# Altium integrated library Maxim Power and Battery Management.IntLib: 645 symbols (part 12 of 15)
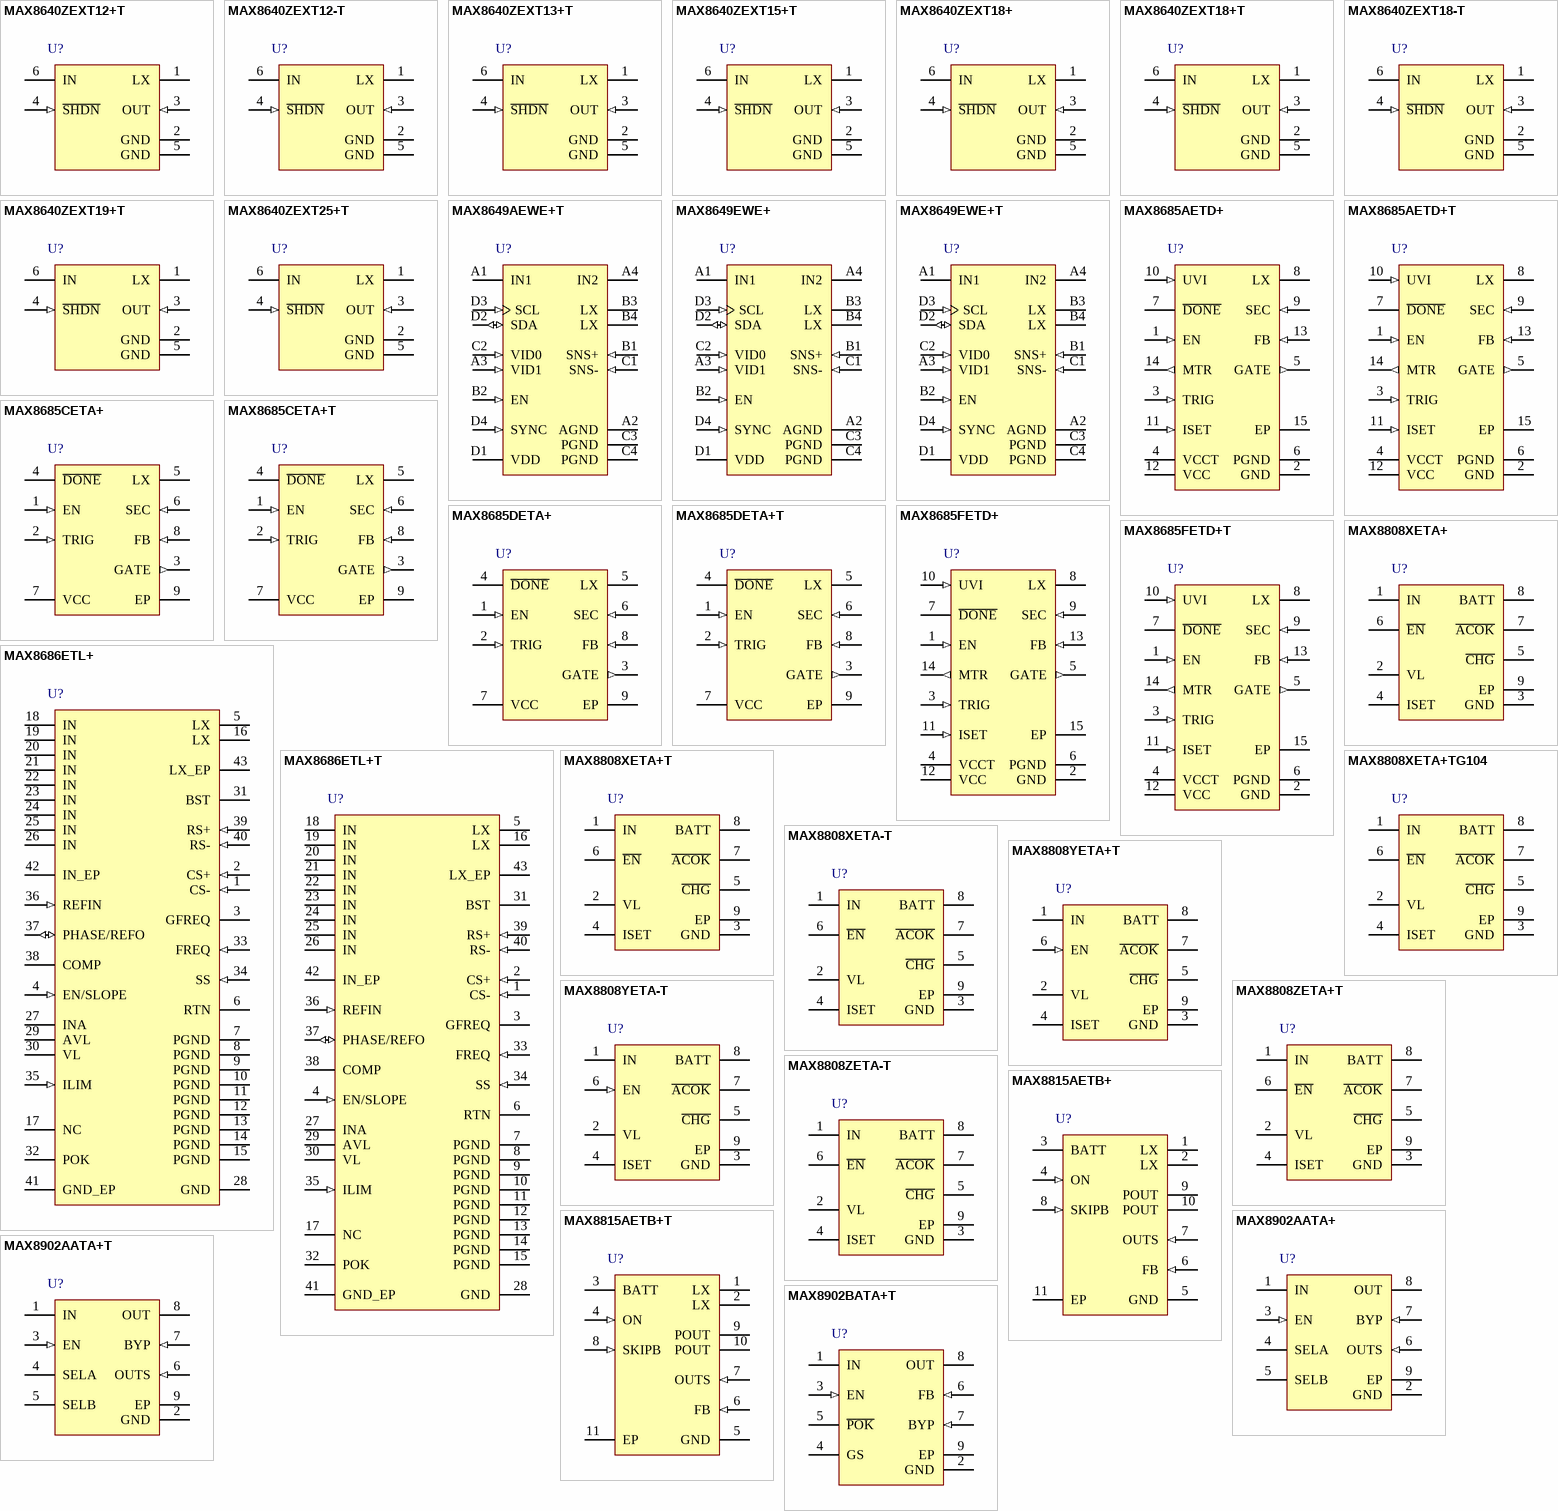
[diagram p30: symbols MAX8640ZEXT12+T to MAX8902BATA+T]

## MAX8649EWE+
designator U?
1.8A Step-Down Regulator with Remote Sense, I2C Address (0xC0/0xC1), 16-Pin WLP, -40°C to +85°C, Pb-Free; DatasheetVersion: Rev 4, Jun-2011; PackageVersion: revF, 2011; PackageReference: W162B2+1; PackageDescription: 16-Ball Wafer-Level Package (WLP) 4x4 Bump, Full Array, 0.5 mm Pitch, Pb-Free; ComponentLink1Description: Manufacturer URL; ComponentLink1URL: http://www.maxim-ic.com; ComponentLink2Description: Datasheet; ComponentLink2URL: http://datasheets.maxim-ic.com/en/ds/MAX8649-MAX8649A.pdf; ComponentLink3Description: Package Specification; ComponentLink3URL: http://pdfserv.maxim-ic.com/package_dwgs/21-0200.PDF
footprint W162B2+1 (BGA, 16-Leads, Body 2.05x2.05mm, Pitch 0.5mm)
pins: A1 IN1 (power), A2 AGND (power), A3 VID1 (in), A4 IN2 (power), B1 SNS+ (in), B2 EN (in), B3 LX, B4 LX, C1 SNS- (in), C2 VID0 (in), C3 PGND (power), C4 PGND (power), D1 VDD (power), D2 SDA (io), D3 SCL (in), D4 SYNC (in)

## MAX8649EWE+T
designator U?
1.8A Step-Down Regulator with Remote Sense, I2C Address (0xC0/0xC1), 16-Pin WLP, -40°C to +85°C, Pb-Free, Tape and Reel; DatasheetVersion: Rev 4, Jun-2011; PackageVersion: revF, 2011; PackageReference: W162B2+1; PackageDescription: 16-Ball Wafer-Level Package (WLP) 4x4 Bump, Full Array, 0.5 mm Pitch, Pb-Free; ComponentLink1Description: Manufacturer URL; ComponentLink1URL: http://www.maxim-ic.com; ComponentLink2Description: Datasheet; ComponentLink2URL: http://datasheets.maxim-ic.com/en/ds/MAX8649-MAX8649A.pdf; ComponentLink3Description: Package Specification; ComponentLink3URL: http://pdfserv.maxim-ic.com/package_dwgs/21-0200.PDF
footprint W162B2+1 (BGA, 16-Leads, Body 2.05x2.05mm, Pitch 0.5mm)
pins: A1 IN1 (power), A2 AGND (power), A3 VID1 (in), A4 IN2 (power), B1 SNS+ (in), B2 EN (in), B3 LX, B4 LX, C1 SNS- (in), C2 VID0 (in), C3 PGND (power), C4 PGND (power), D1 VDD (power), D2 SDA (io), D3 SCL (in), D4 SYNC (in)

## MAX8685AETD+
designator U?
Xenon Photoflash Charger with IGBT Driver and Voltage Monitor, 14-Pin TDFN-EP, -40°C to +85°C, Pb-Free; DatasheetVersion: Rev 4, Feb-2009; PackageVersion: revJ, 2009; PackageReference: T1433+2; PackageDescription: 14-Pin Plastic Very Very Thin Dual Flatpack No Leads (TDFN-EP), 3 x 3 x 0.8 mm Body, 0.4 mm Pitch, Pb-Free; ComponentLink1Description: Manufacturer URL; ComponentLink1URL: http://www.maxim-ic.com; ComponentLink2Description: Datasheet; ComponentLink2URL: http://datasheets.maxim-ic.com/en/ds/MAX8685-MAX8685F.pdf; ComponentLink3Description: Package Specification; ComponentLink3URL: http://pdfserv.maxim-ic.com/package_dwgs/21-0137.PDF
footprint T1433+2_V (SON, 14-Leads, Body 3x3mm, Pitch 0.4mm, Thermal Pad 2.35x1.78mm, Maxim Recommended)
pins: 1 EN (in), 2 GND (power), 3 TRIG (in), 4 VCCT (power), 5 GATE (out), 6 PGND (power), 7 ~{DONE} (oc), 8 LX, 9 SEC (in), 10 UVI (in), 11 ISET (in), 12 VCC (power), 13 FB (in), 14 MTR (out), 15 EP (power)

## MAX8685AETD+T
designator U?
Xenon Photoflash Charger with IGBT Driver and Voltage Monitor, 14-Pin TDFN-EP, -40°C to +85°C, Pb-Free, Tape and Reel; DatasheetVersion: Rev 4, Feb-2009; PackageVersion: revJ, 2009; PackageReference: T1433+2; PackageDescription: 14-Pin Plastic Very Very Thin Dual Flatpack No Leads (TDFN-EP), 3 x 3 x 0.8 mm Body, 0.4 mm Pitch, Pb-Free; ComponentLink1Description: Manufacturer URL; ComponentLink1URL: http://www.maxim-ic.com; ComponentLink2Description: Datasheet; ComponentLink2URL: http://datasheets.maxim-ic.com/en/ds/MAX8685-MAX8685F.pdf; ComponentLink3Description: Package Specification; ComponentLink3URL: http://pdfserv.maxim-ic.com/package_dwgs/21-0137.PDF
footprint T1433+2_V (SON, 14-Leads, Body 3x3mm, Pitch 0.4mm, Thermal Pad 2.35x1.78mm, Maxim Recommended)
pins: 1 EN (in), 2 GND (power), 3 TRIG (in), 4 VCCT (power), 5 GATE (out), 6 PGND (power), 7 ~{DONE} (oc), 8 LX, 9 SEC (in), 10 UVI (in), 11 ISET (in), 12 VCC (power), 13 FB (in), 14 MTR (out), 15 EP (power)

## MAX8685CETA+
designator U?
Xenon Photoflash Charger with IGBT Driver and Voltage Monitor, 8-Pin TDFN, -40°C to +85°C, Pb-Free; DatasheetVersion: Rev 4, Feb-2009; PackageVersion: revC, 2011; PackageReference: T823+1; PackageDescription: 8-Pin Plastic Very Very Thin Dual Flatpack No Leads, Exposed Pad, 2 x 3 x 0.8 mm Body, TDFN-EP, Pb-Free; Code_JEDEC: MO-229-WCED-2; ComponentLink1Description: Manufacturer URL; ComponentLink1URL: http://www.maxim-ic.com; ComponentLink2Description: Datasheet; ComponentLink2URL: http://datasheets.maxim-ic.com/en/ds/MAX8685-MAX8685F.pdf; ComponentLink3Description: Package Specification; ComponentLink3URL: http://pdfserv.maxim-ic.com/package_dwgs/21-0174.PDF
footprint T823+1_V (SON, 8-Leads, Body 2x3mm, Pitch 0.5mm, Thermal Pad 1.88x1.73 mm)
pins: 1 EN (in), 2 TRIG (in), 3 GATE (out), 4 ~{DONE} (oc), 5 LX, 6 SEC (in), 7 VCC (power), 8 FB (in), 9 EP (power)

## MAX8685CETA+T
designator U?
Xenon Photoflash Charger with IGBT Driver and Voltage Monitor, 8-Pin TDFN, -40°C to +85°C, Pb-Free, Tape and Reel; DatasheetVersion: Rev 4, Feb-2009; PackageVersion: revC, 2011; PackageReference: T823+1; PackageDescription: 8-Pin Plastic Very Very Thin Dual Flatpack No Leads, Exposed Pad, 2 x 3 x 0.8 mm Body, TDFN-EP, Pb-Free; Code_JEDEC: MO-229-WCED-2; ComponentLink1Description: Manufacturer URL; ComponentLink1URL: http://www.maxim-ic.com; ComponentLink2Description: Datasheet; ComponentLink2URL: http://datasheets.maxim-ic.com/en/ds/MAX8685-MAX8685F.pdf; ComponentLink3Description: Package Specification; ComponentLink3URL: http://pdfserv.maxim-ic.com/package_dwgs/21-0174.PDF
footprint T823+1_V (SON, 8-Leads, Body 2x3mm, Pitch 0.5mm, Thermal Pad 1.88x1.73 mm)
pins: 1 EN (in), 2 TRIG (in), 3 GATE (out), 4 ~{DONE} (oc), 5 LX, 6 SEC (in), 7 VCC (power), 8 FB (in), 9 EP (power)

## MAX8685DETA+
designator U?
Xenon Photoflash Charger with IGBT Driver and Voltage Monitor, 8-Pin TDFN, -40°C to +85°C, Pb-Free; DatasheetVersion: Rev 4, Feb-2009; PackageVersion: revC, 2011; PackageReference: T823+1; PackageDescription: 8-Pin Plastic Very Very Thin Dual Flatpack No Leads, Exposed Pad, 2 x 3 x 0.8 mm Body, TDFN-EP, Pb-Free; Code_JEDEC: MO-229-WCED-2; ComponentLink1Description: Manufacturer URL; ComponentLink1URL: http://www.maxim-ic.com; ComponentLink2Description: Datasheet; ComponentLink2URL: http://datasheets.maxim-ic.com/en/ds/MAX8685-MAX8685F.pdf; ComponentLink3Description: Package Specification; ComponentLink3URL: http://pdfserv.maxim-ic.com/package_dwgs/21-0174.PDF
footprint T823+1_V (SON, 8-Leads, Body 2x3mm, Pitch 0.5mm, Thermal Pad 1.88x1.73 mm)
pins: 1 EN (in), 2 TRIG (in), 3 GATE (out), 4 ~{DONE} (oc), 5 LX, 6 SEC (in), 7 VCC (power), 8 FB (in), 9 EP (power)

## MAX8685DETA+T
designator U?
Xenon Photoflash Charger with IGBT Driver and Voltage Monitor, 8-Pin TDFN, -40°C to +85°C, Pb-Free, Tape and Reel; DatasheetVersion: Rev 4, Feb-2009; PackageVersion: revC, 2011; PackageReference: T823+1; PackageDescription: 8-Pin Plastic Very Very Thin Dual Flatpack No Leads, Exposed Pad, 2 x 3 x 0.8 mm Body, TDFN-EP, Pb-Free; Code_JEDEC: MO-229-WCED-2; ComponentLink1Description: Manufacturer URL; ComponentLink1URL: http://www.maxim-ic.com; ComponentLink2Description: Datasheet; ComponentLink2URL: http://datasheets.maxim-ic.com/en/ds/MAX8685-MAX8685F.pdf; ComponentLink3Description: Package Specification; ComponentLink3URL: http://pdfserv.maxim-ic.com/package_dwgs/21-0174.PDF
footprint T823+1_V (SON, 8-Leads, Body 2x3mm, Pitch 0.5mm, Thermal Pad 1.88x1.73 mm)
pins: 1 EN (in), 2 TRIG (in), 3 GATE (out), 4 ~{DONE} (oc), 5 LX, 6 SEC (in), 7 VCC (power), 8 FB (in), 9 EP (power)

## MAX8685FETD+
designator U?
Xenon Photoflash Charger with IGBT Driver and Voltage Monitor, 14-Pin TDFN-EP, -40°C to +85°C, Pb-Free; DatasheetVersion: Rev 4, Feb-2009; PackageVersion: revJ, 2009; PackageReference: T1433+2; PackageDescription: 14-Pin Plastic Very Very Thin Dual Flatpack No Leads (TDFN-EP), 3 x 3 x 0.8 mm Body, 0.4 mm Pitch, Pb-Free; ComponentLink1Description: Manufacturer URL; ComponentLink1URL: http://www.maxim-ic.com; ComponentLink2Description: Datasheet; ComponentLink2URL: http://datasheets.maxim-ic.com/en/ds/MAX8685-MAX8685F.pdf; ComponentLink3Description: Package Specification; ComponentLink3URL: http://pdfserv.maxim-ic.com/package_dwgs/21-0137.PDF
footprint T1433+2_V (SON, 14-Leads, Body 3x3mm, Pitch 0.4mm, Thermal Pad 2.35x1.78mm, Maxim Recommended)
pins: 1 EN (in), 2 GND (power), 3 TRIG (in), 4 VCCT (power), 5 GATE (out), 6 PGND (power), 7 ~{DONE} (oc), 8 LX, 9 SEC (in), 10 UVI (in), 11 ISET (in), 12 VCC (power), 13 FB (in), 14 MTR (out), 15 EP (power)

## MAX8685FETD+T
designator U?
Xenon Photoflash Charger with IGBT Driver and Voltage Monitor, 14-Pin TDFN-EP, -40°C to +85°C, Pb-Free, Tape and Reel; DatasheetVersion: Rev 4, Feb-2009; PackageVersion: revJ, 2009; PackageReference: T1433+2; PackageDescription: 14-Pin Plastic Very Very Thin Dual Flatpack No Leads (TDFN-EP), 3 x 3 x 0.8 mm Body, 0.4 mm Pitch, Pb-Free; ComponentLink1Description: Manufacturer URL; ComponentLink1URL: http://www.maxim-ic.com; ComponentLink2Description: Datasheet; ComponentLink2URL: http://datasheets.maxim-ic.com/en/ds/MAX8685-MAX8685F.pdf; ComponentLink3Description: Package Specification; ComponentLink3URL: http://pdfserv.maxim-ic.com/package_dwgs/21-0137.PDF
footprint T1433+2_V (SON, 14-Leads, Body 3x3mm, Pitch 0.4mm, Thermal Pad 2.35x1.78mm, Maxim Recommended)
pins: 1 EN (in), 2 GND (power), 3 TRIG (in), 4 VCCT (power), 5 GATE (out), 6 PGND (power), 7 ~{DONE} (oc), 8 LX, 9 SEC (in), 10 UVI (in), 11 ISET (in), 12 VCC (power), 13 FB (in), 14 MTR (out), 15 EP (power)

## MAX8686ETL+
designator U?
Single/Multiphase, Step-Down, DC-DC Converter with up to 25A Per Phase, 40-Pin TQFN, Pb-Free; DatasheetVersion: Rev 1, Oct-2010; PackageVersion: revE, 2011; PackageReference: T4066M+1; PackageDescription: 40-Pin Thin Quad Flat No-Lead, 6 x 6 x 0.75 mm Body, 0.5 mm Pitch, TQFN, Three Exposed Pads, Pb-Free; ComponentLink1Description: Manufacturer URL; ComponentLink1URL: http://www.maxim-ic.com; ComponentLink2Description: Datasheet; ComponentLink2URL: http://datasheets.maxim-ic.com/en/ds/MAX8686.pdf; ComponentLink3Description: Package Specification; ComponentLink3URL: http://pdfserv.maxim-ic.com/package_dwgs/21-0177.PDF
footprint T4066M+1_N (QFN, 40-Leads, Body 6x6mm, Pitch 0.5mm, Three Thermal Pads, IPC Medium Density)
footprint T4066M+1_L (QFN, 40-Leads, Body 6x6mm, Pitch 0.5mm, Three Thermal Pads, IPC High Density)
footprint T4066M+1_M (QFN, 40-Leads, Body 6x6mm, Pitch 0.5mm, Three Thermal Pads, IPC Low Density)
pins: 1 CS- (in), 2 CS+ (in), 3 GFREQ, 4 EN/SLOPE (in), 5 LX, 6 RTN (power), 7 PGND (power), 8 PGND (power), 9 PGND (power), 10 PGND (power), 11 PGND (power), 12 PGND (power), 13 PGND (power), 14 PGND (power), 15 PGND (power), 16 LX, 17 NC, 18 IN (power), 19 IN (power), 20 IN (power), 21 IN (power), 22 IN (power), 23 IN (power), 24 IN (power), 25 IN (power), 26 IN (power), 27 INA (power), 28 GND (power), 29 AVL (power), 30 VL (power), 31 BST, 32 POK (oc), 33 FREQ (in), 34 SS (in), 35 ILIM (in), 36 REFIN (in), 37 PHASE/REFO (io), 38 COMP, 39 RS+ (in), 40 RS- (in), 41 GND_EP (power), 42 IN_EP, 43 LX_EP

## MAX8686ETL+T
designator U?
Single/Multiphase, Step-Down, DC-DC Converter with up to 25A Per Phase, 40-Pin TQFN, Pb-Free, Tape and Reel; DatasheetVersion: Rev 1, Oct-2010; PackageVersion: revE, 2011; PackageReference: T4066M+1; PackageDescription: 40-Pin Thin Quad Flat No-Lead, 6 x 6 x 0.75 mm Body, 0.5 mm Pitch, TQFN, Three Exposed Pads, Pb-Free; ComponentLink1Description: Manufacturer URL; ComponentLink1URL: http://www.maxim-ic.com; ComponentLink2Description: Datasheet; ComponentLink2URL: http://datasheets.maxim-ic.com/en/ds/MAX8686.pdf; ComponentLink3Description: Package Specification; ComponentLink3URL: http://pdfserv.maxim-ic.com/package_dwgs/21-0177.PDF
footprint T4066M+1_N (QFN, 40-Leads, Body 6x6mm, Pitch 0.5mm, Three Thermal Pads, IPC Medium Density)
footprint T4066M+1_L (QFN, 40-Leads, Body 6x6mm, Pitch 0.5mm, Three Thermal Pads, IPC High Density)
footprint T4066M+1_M (QFN, 40-Leads, Body 6x6mm, Pitch 0.5mm, Three Thermal Pads, IPC Low Density)
pins: 1 CS- (in), 2 CS+ (in), 3 GFREQ, 4 EN/SLOPE (in), 5 LX, 6 RTN (power), 7 PGND (power), 8 PGND (power), 9 PGND (power), 10 PGND (power), 11 PGND (power), 12 PGND (power), 13 PGND (power), 14 PGND (power), 15 PGND (power), 16 LX, 17 NC, 18 IN (power), 19 IN (power), 20 IN (power), 21 IN (power), 22 IN (power), 23 IN (power), 24 IN (power), 25 IN (power), 26 IN (power), 27 INA (power), 28 GND (power), 29 AVL (power), 30 VL (power), 31 BST, 32 POK (oc), 33 FREQ (in), 34 SS (in), 35 ILIM (in), 36 REFIN (in), 37 PHASE/REFO (io), 38 COMP, 39 RS+ (in), 40 RS- (in), 41 GND_EP (power), 42 IN_EP, 43 LX_EP

## MAX8808XETA+
designator U?
1A Linear Li+ Battery Charger with Integrated Pass FET and Thermal Regulation, 8-Pin TDFN, -40°C to +85°C, Pb-Free; DatasheetVersion: Rev 0, Apr-2005; PackageVersion: revF, 2011; PackageReference: T822+1; PackageDescription: 8-Pin Plastic Very Very Thin Dual Flatpack, No Leads, 2 x 2 x 0.75 mm Body, 0.5 mm Pitch, TDFN, Pb-Free; Code_JEDEC: MO-229*; ComponentLink1Description: Manufacturer URL; ComponentLink1URL: http://www.maxim-ic.com; ComponentLink2Description: Datasheet; ComponentLink2URL: http://datasheets.maxim-ic.com/en/ds/MAX8808X-MAX8808Z.pdf; ComponentLink3Description: Package Specification; ComponentLink3URL: http://pdfserv.maxim-ic.com/package_dwgs/21-0168.PDF
footprint T822+1_N (SON, 8-Leads, Body 2x2mm, Pitch 0.5mm, Thermal Pad 1.3x0.7mm, IPC Medium Density)
footprint T822+1_L (SON, 8-Leads, Body 2x2mm, Pitch 0.5mm, Thermal Pad 1.3x0.7mm, IPC High Density)
footprint T822+1_M (SON, 8-Leads, Body 2x2mm, Pitch 0.5mm, Thermal Pad 1.3x0.7mm, IPC Low Density)
pins: 1 IN (power), 2 VL (power), 3 GND (power), 4 ISET, 5 ~{CHG} (oc), 6 ~{EN}, 7 ~{ACOK} (oc), 8 BATT (power), 9 EP (power)

## MAX8808XETA+T
designator U?
1A Linear Li+ Battery Charger with Integrated Pass FET and Thermal Regulation, 8-Pin TDFN, -40°C to +85°C, Pb-Free, Tape and Reel; DatasheetVersion: Rev 0, Apr-2005; PackageVersion: revF, 2011; PackageReference: T822+1; PackageDescription: 8-Pin Plastic Very Very Thin Dual Flatpack, No Leads, 2 x 2 x 0.75 mm Body, 0.5 mm Pitch, TDFN, Pb-Free; Code_JEDEC: MO-229*; ComponentLink1Description: Manufacturer URL; ComponentLink1URL: http://www.maxim-ic.com; ComponentLink2Description: Datasheet; ComponentLink2URL: http://datasheets.maxim-ic.com/en/ds/MAX8808X-MAX8808Z.pdf; ComponentLink3Description: Package Specification; ComponentLink3URL: http://pdfserv.maxim-ic.com/package_dwgs/21-0168.PDF
footprint T822+1_N (SON, 8-Leads, Body 2x2mm, Pitch 0.5mm, Thermal Pad 1.3x0.7mm, IPC Medium Density)
footprint T822+1_L (SON, 8-Leads, Body 2x2mm, Pitch 0.5mm, Thermal Pad 1.3x0.7mm, IPC High Density)
footprint T822+1_M (SON, 8-Leads, Body 2x2mm, Pitch 0.5mm, Thermal Pad 1.3x0.7mm, IPC Low Density)
pins: 1 IN (power), 2 VL (power), 3 GND (power), 4 ISET, 5 ~{CHG} (oc), 6 ~{EN}, 7 ~{ACOK} (oc), 8 BATT (power), 9 EP (power)

## MAX8808XETA+TG104
designator U?
1A Linear Li+ Battery Charger with Integrated Pass FET and Thermal Regulation, 8-Pin TDFN, -40°C to +85°C, Pb-Free, Tape and Reel; DatasheetVersion: Rev 0, Apr-2005; PackageVersion: revF, 2011; PackageReference: T822+1; PackageDescription: 8-Pin Plastic Very Very Thin Dual Flatpack, No Leads, 2 x 2 x 0.75 mm Body, 0.5 mm Pitch, TDFN, Pb-Free; Code_JEDEC: MO-229*; ComponentLink1Description: Manufacturer URL; ComponentLink1URL: http://www.maxim-ic.com; ComponentLink2Description: Datasheet; ComponentLink2URL: http://datasheets.maxim-ic.com/en/ds/MAX8808X-MAX8808Z.pdf; ComponentLink3Description: Package Specification; ComponentLink3URL: http://pdfserv.maxim-ic.com/package_dwgs/21-0168.PDF
footprint T822+1_N (SON, 8-Leads, Body 2x2mm, Pitch 0.5mm, Thermal Pad 1.3x0.7mm, IPC Medium Density)
footprint T822+1_L (SON, 8-Leads, Body 2x2mm, Pitch 0.5mm, Thermal Pad 1.3x0.7mm, IPC High Density)
footprint T822+1_M (SON, 8-Leads, Body 2x2mm, Pitch 0.5mm, Thermal Pad 1.3x0.7mm, IPC Low Density)
pins: 1 IN (power), 2 VL (power), 3 GND (power), 4 ISET, 5 ~{CHG} (oc), 6 ~{EN}, 7 ~{ACOK} (oc), 8 BATT (power), 9 EP (power)

## MAX8808XETA-T
designator U?
1A Linear Li+ Battery Charger with Integrated Pass FET and Thermal Regulation, 8-Pin TDFN, -40°C to +85°C, Tape and Reel; DatasheetVersion: Rev 0, Apr-2005; PackageVersion: revF, 2011; PackageReference: T822-1; PackageDescription: 8-Pin Plastic Very Very Thin Dual Flatpack, No Leads, 2 x 2 x 0.75 mm Body, 0.5 mm Pitch, TDFN; Code_JEDEC: MO-229*; ComponentLink1Description: Manufacturer URL; ComponentLink1URL: http://www.maxim-ic.com; ComponentLink2Description: Datasheet; ComponentLink2URL: http://datasheets.maxim-ic.com/en/ds/MAX8808X-MAX8808Z.pdf; ComponentLink3Description: Package Specification; ComponentLink3URL: http://pdfserv.maxim-ic.com/package_dwgs/21-0168.PDF
footprint T822-1_N (SON, 8-Leads, Body 2x2mm, Pitch 0.5mm, Thermal Pad 1.3x0.7mm, IPC Medium Density)
footprint T822-1_L (SON, 8-Leads, Body 2x2mm, Pitch 0.5mm, Thermal Pad 1.3x0.7mm, IPC High Density)
footprint T822-1_M (SON, 8-Leads, Body 2x2mm, Pitch 0.5mm, Thermal Pad 1.3x0.7mm, IPC Low Density)
pins: 1 IN (power), 2 VL (power), 3 GND (power), 4 ISET, 5 ~{CHG} (oc), 6 ~{EN}, 7 ~{ACOK} (oc), 8 BATT (power), 9 EP (power)

## MAX8808YETA+T
designator U?
1A Linear Li+ Battery Charger with Integrated Pass FET and Thermal Regulation, 8-Pin TDFN, -40°C to +85°C, Pb-Free, Tape and Reel; DatasheetVersion: Rev 0, Apr-2005; PackageVersion: revF, 2011; PackageReference: T822+1; PackageDescription: 8-Pin Plastic Very Very Thin Dual Flatpack, No Leads, 2 x 2 x 0.75 mm Body, 0.5 mm Pitch, TDFN, Pb-Free; Code_JEDEC: MO-229*; ComponentLink1Description: Manufacturer URL; ComponentLink1URL: http://www.maxim-ic.com; ComponentLink2Description: Datasheet; ComponentLink2URL: http://datasheets.maxim-ic.com/en/ds/MAX8808X-MAX8808Z.pdf; ComponentLink3Description: Package Specification; ComponentLink3URL: http://pdfserv.maxim-ic.com/package_dwgs/21-0168.PDF
footprint T822+1_N (SON, 8-Leads, Body 2x2mm, Pitch 0.5mm, Thermal Pad 1.3x0.7mm, IPC Medium Density)
footprint T822+1_L (SON, 8-Leads, Body 2x2mm, Pitch 0.5mm, Thermal Pad 1.3x0.7mm, IPC High Density)
footprint T822+1_M (SON, 8-Leads, Body 2x2mm, Pitch 0.5mm, Thermal Pad 1.3x0.7mm, IPC Low Density)
pins: 1 IN (power), 2 VL (power), 3 GND (power), 4 ISET, 5 ~{CHG} (oc), 6 EN (in), 7 ~{ACOK} (oc), 8 BATT (power), 9 EP (power)

## MAX8808YETA-T
designator U?
1A Linear Li+ Battery Charger with Integrated Pass FET and Thermal Regulation, 8-Pin TDFN, -40°C to +85°C, Tape and Reel; DatasheetVersion: Rev 0, Apr-2005; PackageVersion: revF, 2011; PackageReference: T822-1; PackageDescription: 8-Pin Plastic Very Very Thin Dual Flatpack, No Leads, 2 x 2 x 0.75 mm Body, 0.5 mm Pitch, TDFN; Code_JEDEC: MO-229*; ComponentLink1Description: Manufacturer URL; ComponentLink1URL: http://www.maxim-ic.com; ComponentLink2Description: Datasheet; ComponentLink2URL: http://datasheets.maxim-ic.com/en/ds/MAX8808X-MAX8808Z.pdf; ComponentLink3Description: Package Specification; ComponentLink3URL: http://pdfserv.maxim-ic.com/package_dwgs/21-0168.PDF
footprint T822-1_N (SON, 8-Leads, Body 2x2mm, Pitch 0.5mm, Thermal Pad 1.3x0.7mm, IPC Medium Density)
footprint T822-1_L (SON, 8-Leads, Body 2x2mm, Pitch 0.5mm, Thermal Pad 1.3x0.7mm, IPC High Density)
footprint T822-1_M (SON, 8-Leads, Body 2x2mm, Pitch 0.5mm, Thermal Pad 1.3x0.7mm, IPC Low Density)
pins: 1 IN (power), 2 VL (power), 3 GND (power), 4 ISET, 5 ~{CHG} (oc), 6 EN (in), 7 ~{ACOK} (oc), 8 BATT (power), 9 EP (power)

## MAX8808ZETA+T
designator U?
1A Linear Li+ Battery Charger with Integrated Pass FET and Thermal Regulation, 8-Pin TDFN, -40°C to +85°C, Pb-Free, Tape and Reel; DatasheetVersion: Rev 0, Apr-2005; PackageVersion: revF, 2011; PackageReference: T822+1; PackageDescription: 8-Pin Plastic Very Very Thin Dual Flatpack, No Leads, 2 x 2 x 0.75 mm Body, 0.5 mm Pitch, TDFN, Pb-Free; Code_JEDEC: MO-229*; ComponentLink1Description: Manufacturer URL; ComponentLink1URL: http://www.maxim-ic.com; ComponentLink2Description: Datasheet; ComponentLink2URL: http://datasheets.maxim-ic.com/en/ds/MAX8808X-MAX8808Z.pdf; ComponentLink3Description: Package Specification; ComponentLink3URL: http://pdfserv.maxim-ic.com/package_dwgs/21-0168.PDF
footprint T822+1_N (SON, 8-Leads, Body 2x2mm, Pitch 0.5mm, Thermal Pad 1.3x0.7mm, IPC Medium Density)
footprint T822+1_L (SON, 8-Leads, Body 2x2mm, Pitch 0.5mm, Thermal Pad 1.3x0.7mm, IPC High Density)
footprint T822+1_M (SON, 8-Leads, Body 2x2mm, Pitch 0.5mm, Thermal Pad 1.3x0.7mm, IPC Low Density)
pins: 1 IN (power), 2 VL (power), 3 GND (power), 4 ISET, 5 ~{CHG} (oc), 6 ~{EN}, 7 ~{ACOK} (oc), 8 BATT (power), 9 EP (power)

## MAX8808ZETA-T
designator U?
1A Linear Li+ Battery Charger with Integrated Pass FET and Thermal Regulation, 8-Pin TDFN, -40°C to +85°C, Tape and Reel; DatasheetVersion: Rev 0, Apr-2005; PackageVersion: revF, 2011; PackageReference: T822-1; PackageDescription: 8-Pin Plastic Very Very Thin Dual Flatpack, No Leads, 2 x 2 x 0.75 mm Body, 0.5 mm Pitch, TDFN; Code_JEDEC: MO-229*; ComponentLink1Description: Manufacturer URL; ComponentLink1URL: http://www.maxim-ic.com; ComponentLink2Description: Datasheet; ComponentLink2URL: http://datasheets.maxim-ic.com/en/ds/MAX8808X-MAX8808Z.pdf; ComponentLink3Description: Package Specification; ComponentLink3URL: http://pdfserv.maxim-ic.com/package_dwgs/21-0168.PDF
footprint T822-1_N (SON, 8-Leads, Body 2x2mm, Pitch 0.5mm, Thermal Pad 1.3x0.7mm, IPC Medium Density)
footprint T822-1_L (SON, 8-Leads, Body 2x2mm, Pitch 0.5mm, Thermal Pad 1.3x0.7mm, IPC High Density)
footprint T822-1_M (SON, 8-Leads, Body 2x2mm, Pitch 0.5mm, Thermal Pad 1.3x0.7mm, IPC Low Density)
pins: 1 IN (power), 2 VL (power), 3 GND (power), 4 ISET, 5 ~{CHG} (oc), 6 ~{EN}, 7 ~{ACOK} (oc), 8 BATT (power), 9 EP (power)

## MAX8815AETB+
designator U?
1A, 97% Efficiency, 30uA Quiescent Current, Step-Up Converter with True Shutdown(TM), 10-Pin TDFN-EP, -40°C to +85°C, Pb-Free; DatasheetVersion: Rev 1, Aug-2008; PackageVersion: revJ, 2009; PackageReference: T1033+2; PackageDescription: 10-Pin Plastic Very Very Thin Dual Flatpack No Leads, Exposed Pad, 3 x 3 x 0.8 mm Body, TDFN-EP, Pb-Free; Code_JEDEC: MO-229-WEED-3; ComponentLink1Description: Manufacturer URL; ComponentLink1URL: http://www.maxim-ic.com; ComponentLink2Description: Datasheet; ComponentLink2URL: http://datasheets.maxim-ic.com/en/ds/MAX8815A.pdf; ComponentLink3Description: Package Specification; ComponentLink3URL: http://pdfserv.maxim-ic.com/package_dwgs/21-0137.PDF
footprint T1033+2_V (SON, 10-Leads, Body 3x3mm, Pitch 0.5mm, Thermal Pad 2.35x1.58mm, Maxim Recommended)
footprint  T1033+2_N (SON, 10-Leads, Body 3x3mm, Pitch 0.5mm, Thermal Pad 2.3x1.5mm, IPC Medium Density)
footprint  T1033+2_L (SON, 10-Leads, Body 3x3mm, Pitch 0.5mm, Thermal Pad 2.3x1.5mm, IPC High Density)
footprint  T1033+2_M (SON, 10-Leads, Body 3x3mm, Pitch 0.5mm, Thermal Pad 2.3x1.5mm, IPC Low Density)
pins: 1 LX, 2 LX, 3 BATT (power), 4 ON (in), 5 GND (power), 6 FB (in), 7 OUTS (in), 8 SKIPB (in), 9 POUT (power), 10 POUT (power), 11 EP (power)

## MAX8815AETB+T
designator U?
1A, 97% Efficiency, 30uA Quiescent Current, Step-Up Converter with True Shutdown(TM), 10-Pin TDFN-EP, -40°C to +85°C, Pb-Free, Tape and Reel; DatasheetVersion: Rev 1, Aug-2008; PackageVersion: revJ, 2009; PackageReference: T1033+2; PackageDescription: 10-Pin Plastic Very Very Thin Dual Flatpack No Leads, Exposed Pad, 3 x 3 x 0.8 mm Body, TDFN-EP, Pb-Free; Code_JEDEC: MO-229-WEED-3; ComponentLink1Description: Manufacturer URL; ComponentLink1URL: http://www.maxim-ic.com; ComponentLink2Description: Datasheet; ComponentLink2URL: http://datasheets.maxim-ic.com/en/ds/MAX8815A.pdf; ComponentLink3Description: Package Specification; ComponentLink3URL: http://pdfserv.maxim-ic.com/package_dwgs/21-0137.PDF
footprint T1033+2_V (SON, 10-Leads, Body 3x3mm, Pitch 0.5mm, Thermal Pad 2.35x1.58mm, Maxim Recommended)
footprint  T1033+2_N (SON, 10-Leads, Body 3x3mm, Pitch 0.5mm, Thermal Pad 2.3x1.5mm, IPC Medium Density)
footprint  T1033+2_L (SON, 10-Leads, Body 3x3mm, Pitch 0.5mm, Thermal Pad 2.3x1.5mm, IPC High Density)
footprint  T1033+2_M (SON, 10-Leads, Body 3x3mm, Pitch 0.5mm, Thermal Pad 2.3x1.5mm, IPC Low Density)
pins: 1 LX, 2 LX, 3 BATT (power), 4 ON (in), 5 GND (power), 6 FB (in), 7 OUTS (in), 8 SKIPB (in), 9 POUT (power), 10 POUT (power), 11 EP (power)

## MAX8902AATA+
designator U?
Low-Noise, Low-Dropout, High-PSRR, 500mA Linear Regulator, 8-Pin TDFN-EP, -40°C to +125°C, Pb-Free; DatasheetVersion: Rev 4, Apr-2011; PackageVersion: revF, 2011; PackageReference: T822+1; PackageDescription: 8-Pin Plastic Very Very Thin Dual Flatpack, No Leads, 2 x 2 x 0.75 mm Body, 0.5 mm Pitch, TDFN, Pb-Free; Code_JEDEC: MO-229*; ComponentLink1Description: Manufacturer URL; ComponentLink1URL: http://www.maxim-ic.com; ComponentLink2Description: Datasheet; ComponentLink2URL: http://datasheets.maxim-ic.com/en/ds/MAX8902-MAX8902B.pdf; ComponentLink3Description: Package Specification; ComponentLink3URL: http://pdfserv.maxim-ic.com/package_dwgs/21-0168.PDF
footprint T822+1_N (SON, 8-Leads, Body 2x2mm, Pitch 0.5mm, Thermal Pad 1.3x0.7mm, IPC Medium Density)
footprint T822+1_L (SON, 8-Leads, Body 2x2mm, Pitch 0.5mm, Thermal Pad 1.3x0.7mm, IPC High Density)
footprint T822+1_M (SON, 8-Leads, Body 2x2mm, Pitch 0.5mm, Thermal Pad 1.3x0.7mm, IPC Low Density)
pins: 1 IN (power), 2 GND (power), 3 EN (in), 4 SELA, 5 SELB, 6 OUTS (in), 7 BYP (in), 8 OUT (power), 9 EP (power)

## MAX8902AATA+T
designator U?
Low-Noise, Low-Dropout, High-PSRR, 500mA Linear Regulator, 8-Pin TDFN-EP, -40°C to +125°C, Pb-Free, Tape and Reel; DatasheetVersion: Rev 4, Apr-2011; PackageVersion: revF, 2011; PackageReference: T822+1; PackageDescription: 8-Pin Plastic Very Very Thin Dual Flatpack, No Leads, 2 x 2 x 0.75 mm Body, 0.5 mm Pitch, TDFN, Pb-Free; Code_JEDEC: MO-229*; ComponentLink1Description: Manufacturer URL; ComponentLink1URL: http://www.maxim-ic.com; ComponentLink2Description: Datasheet; ComponentLink2URL: http://datasheets.maxim-ic.com/en/ds/MAX8902-MAX8902B.pdf; ComponentLink3Description: Package Specification; ComponentLink3URL: http://pdfserv.maxim-ic.com/package_dwgs/21-0168.PDF
footprint T822+1_N (SON, 8-Leads, Body 2x2mm, Pitch 0.5mm, Thermal Pad 1.3x0.7mm, IPC Medium Density)
footprint T822+1_L (SON, 8-Leads, Body 2x2mm, Pitch 0.5mm, Thermal Pad 1.3x0.7mm, IPC High Density)
footprint T822+1_M (SON, 8-Leads, Body 2x2mm, Pitch 0.5mm, Thermal Pad 1.3x0.7mm, IPC Low Density)
pins: 1 IN (power), 2 GND (power), 3 EN (in), 4 SELA, 5 SELB, 6 OUTS (in), 7 BYP (in), 8 OUT (power), 9 EP (power)

## MAX8902BATA+T
designator U?
Low-Noise, Low-Dropout, High-PSRR, 500mA Linear Regulator, 8-Pin TDFN-EP, -40°C to +125°C, Pb-Free, Tape and Reel; DatasheetVersion: Rev 4, Apr-2011; PackageVersion: revF, 2011; PackageReference: T822+1; PackageDescription: 8-Pin Plastic Very Very Thin Dual Flatpack, No Leads, 2 x 2 x 0.75 mm Body, 0.5 mm Pitch, TDFN, Pb-Free; Code_JEDEC: MO-229*; ComponentLink1Description: Manufacturer URL; ComponentLink1URL: http://www.maxim-ic.com; ComponentLink2Description: Datasheet; ComponentLink2URL: http://datasheets.maxim-ic.com/en/ds/MAX8902-MAX8902B.pdf; ComponentLink3Description: Package Specification; ComponentLink3URL: http://pdfserv.maxim-ic.com/package_dwgs/21-0168.PDF
footprint T822+1_N (SON, 8-Leads, Body 2x2mm, Pitch 0.5mm, Thermal Pad 1.3x0.7mm, IPC Medium Density)
footprint T822+1_L (SON, 8-Leads, Body 2x2mm, Pitch 0.5mm, Thermal Pad 1.3x0.7mm, IPC High Density)
footprint T822+1_M (SON, 8-Leads, Body 2x2mm, Pitch 0.5mm, Thermal Pad 1.3x0.7mm, IPC Low Density)
pins: 1 IN (power), 2 GND (power), 3 EN (in), 4 GS (power), 5 ~{POK} (oc), 6 FB (in), 7 BYP (in), 8 OUT (power), 9 EP (power)

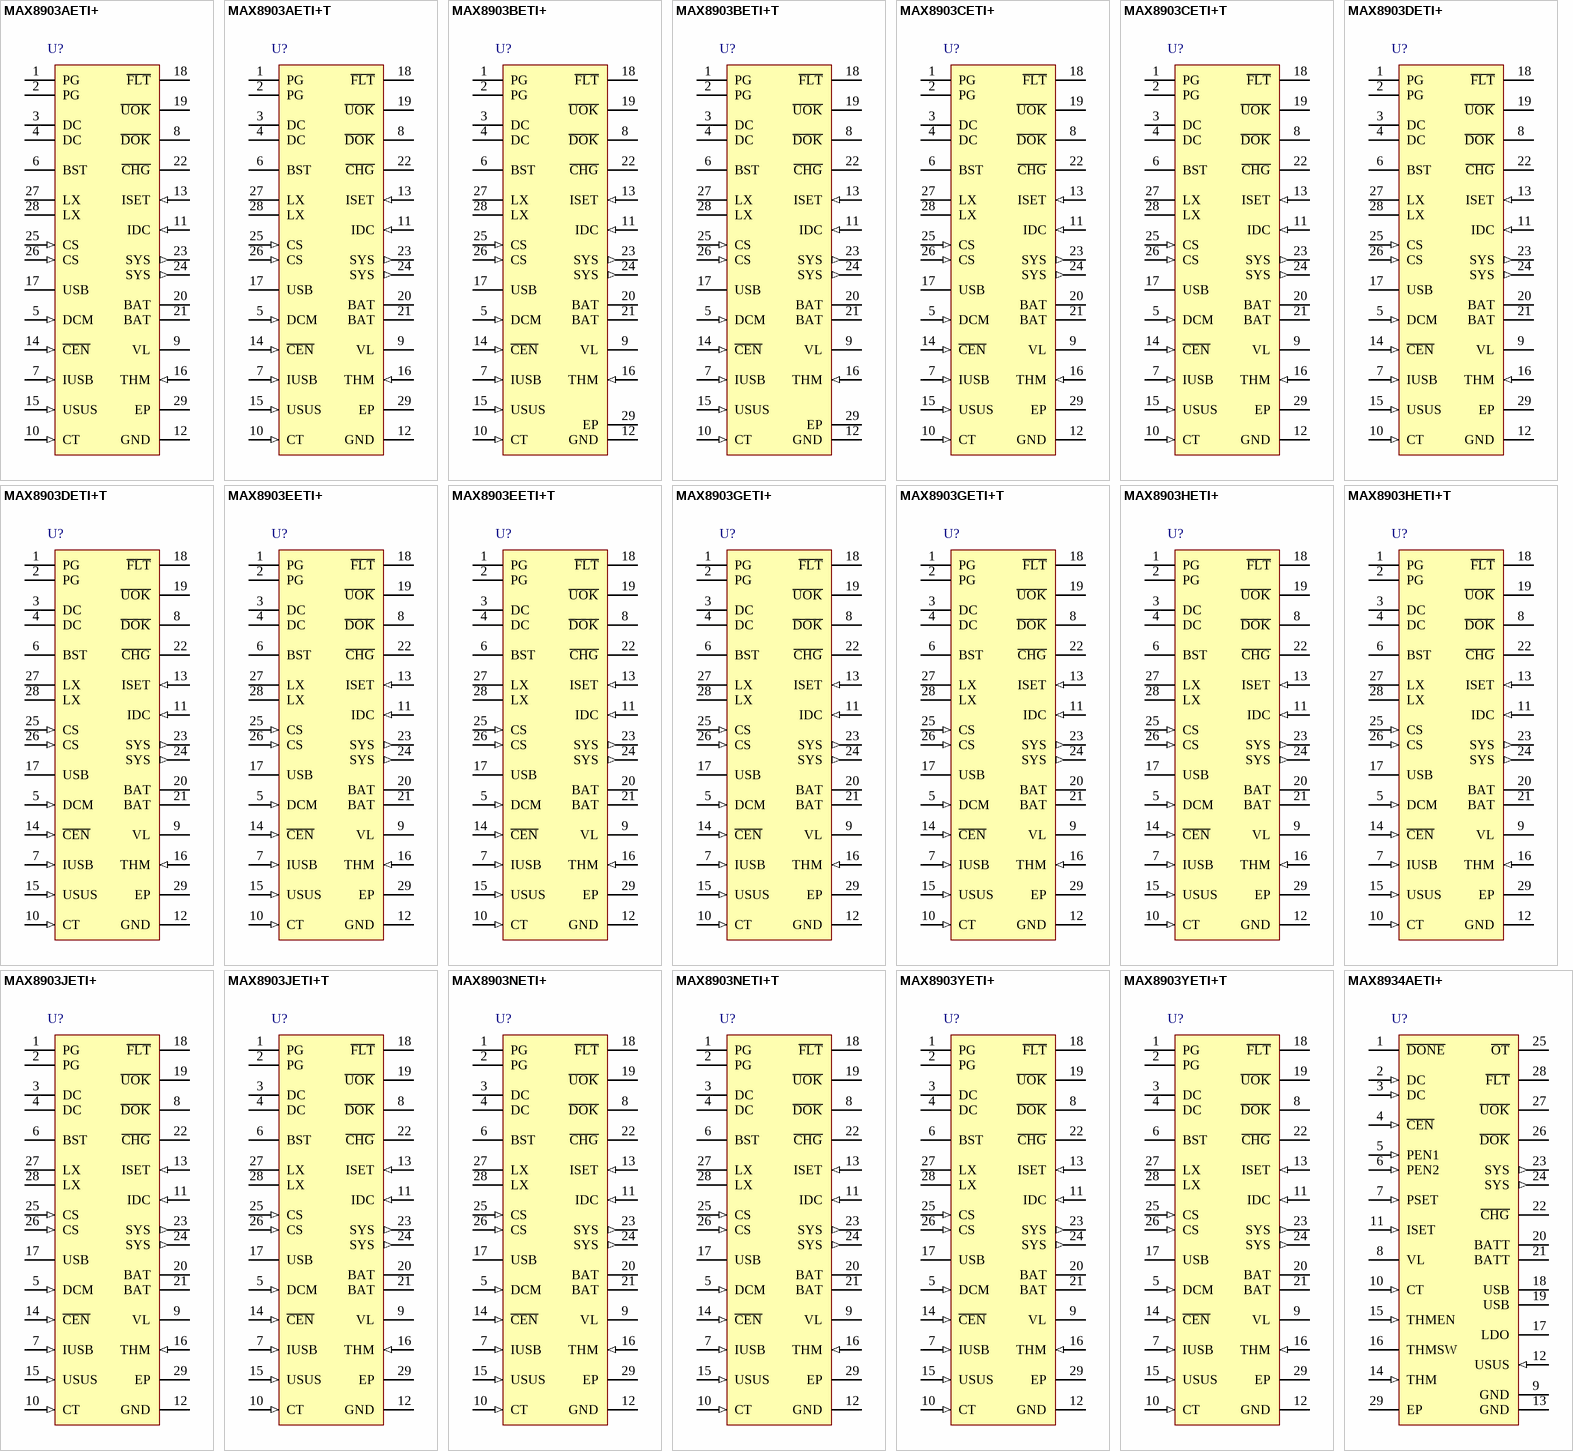
[diagram p15: symbols MAX8903AETI+ to MAX8934AETI+]

## MAX8903AETI+
designator U?
2A 1-Cell Li+ DC-DC Charger for USB and Adapter Power, 28-Pin TQFN, -40°C to +85°C, Pb-Free; DatasheetVersion: Rev 5, Sep-2011; PackageVersion: revK, 2011; PackageReference: T2844+1; PackageDescription: 28-Pin Thin Quad Flatpack, No Leads, 4 x 4 x 0.75mm Body, 0.4 mm Pitch, TQFN, Pb-Free; ComponentLink1Description: Manufacturer URL; ComponentLink1URL: http://www.maxim-ic.com; ComponentLink2Description: Datasheet; ComponentLink2URL: http://datasheets.maxim-ic.com/en/ds/MAX8903A-MAX8903Y.pdf; ComponentLink3Description: Package Specification; ComponentLink3URL: http://pdfserv.maxim-ic.com/package_dwgs/21-0139.PDF
footprint T2844+1_N (QFN, 28-Leads, Body 4x4mm, Pitch 0.4mm, Thermal Pad 2.4x2.4mm, IPC Medium Density)
footprint T2844+1_L (QFN, 28-Leads, Body 4x4mm, Pitch 0.4mm, Thermal Pad 2.4x2.4mm, IPC High Density)
footprint T2844+1_M (QFN, 28-Leads, Body 4x4mm, Pitch 0.4mm, Thermal Pad 2.4x2.4mm, IPC Low Density)
pins: 1 PG (power), 2 PG (power), 3 DC (power), 4 DC (power), 5 DCM (in), 6 BST, 7 IUSB (in), 8 ~{DOK} (oc), 9 VL (power), 10 CT (in), 11 IDC (in), 12 GND (power), 13 ISET (in), 14 ~{CEN} (in), 15 USUS (in), 16 THM (in), 17 USB (power), 18 ~{FLT} (oc), 19 ~{UOK} (oc), 20 BAT (power), 21 BAT (power), 22 ~{CHG} (oc), 23 SYS (out), 24 SYS (out), 25 CS (in), 26 CS (in), 27 LX, 28 LX, 29 EP (power)

## MAX8903AETI+T
designator U?
2A 1-Cell Li+ DC-DC Charger for USB and Adapter Power, 28-Pin TQFN, -40°C to +85°C, Pb-Free, Tape and Reel; DatasheetVersion: Rev 5, Sep-2011; PackageVersion: revK, 2011; PackageReference: T2844+1; PackageDescription: 28-Pin Thin Quad Flatpack, No Leads, 4 x 4 x 0.75mm Body, 0.4 mm Pitch, TQFN, Pb-Free; ComponentLink1Description: Manufacturer URL; ComponentLink1URL: http://www.maxim-ic.com; ComponentLink2Description: Datasheet; ComponentLink2URL: http://datasheets.maxim-ic.com/en/ds/MAX8903A-MAX8903Y.pdf; ComponentLink3Description: Package Specification; ComponentLink3URL: http://pdfserv.maxim-ic.com/package_dwgs/21-0139.PDF
footprint T2844+1_N (QFN, 28-Leads, Body 4x4mm, Pitch 0.4mm, Thermal Pad 2.4x2.4mm, IPC Medium Density)
footprint T2844+1_L (QFN, 28-Leads, Body 4x4mm, Pitch 0.4mm, Thermal Pad 2.4x2.4mm, IPC High Density)
footprint T2844+1_M (QFN, 28-Leads, Body 4x4mm, Pitch 0.4mm, Thermal Pad 2.4x2.4mm, IPC Low Density)
pins: 1 PG (power), 2 PG (power), 3 DC (power), 4 DC (power), 5 DCM (in), 6 BST, 7 IUSB (in), 8 ~{DOK} (oc), 9 VL (power), 10 CT (in), 11 IDC (in), 12 GND (power), 13 ISET (in), 14 ~{CEN} (in), 15 USUS (in), 16 THM (in), 17 USB (power), 18 ~{FLT} (oc), 19 ~{UOK} (oc), 20 BAT (power), 21 BAT (power), 22 ~{CHG} (oc), 23 SYS (out), 24 SYS (out), 25 CS (in), 26 CS (in), 27 LX, 28 LX, 29 EP (power)

## MAX8903BETI+
designator U?
2A 1-Cell Li+ DC-DC Charger for USB and Adapter Power, 28-Pin TQFN, -40°C to +85°C, Pb-Free; DatasheetVersion: Rev 5, Sep-2011; PackageVersion: revK, 2011; PackageReference: T2844+1; PackageDescription: 28-Pin Thin Quad Flatpack, No Leads, 4 x 4 x 0.75mm Body, 0.4 mm Pitch, TQFN, Pb-Free; ComponentLink1Description: Manufacturer URL; ComponentLink1URL: http://www.maxim-ic.com; ComponentLink2Description: Datasheet; ComponentLink2URL: http://datasheets.maxim-ic.com/en/ds/MAX8903A-MAX8903Y.pdf; ComponentLink3Description: Package Specification; ComponentLink3URL: http://pdfserv.maxim-ic.com/package_dwgs/21-0139.PDF
footprint T2844+1_N (QFN, 28-Leads, Body 4x4mm, Pitch 0.4mm, Thermal Pad 2.4x2.4mm, IPC Medium Density)
footprint T2844+1_L (QFN, 28-Leads, Body 4x4mm, Pitch 0.4mm, Thermal Pad 2.4x2.4mm, IPC High Density)
footprint T2844+1_M (QFN, 28-Leads, Body 4x4mm, Pitch 0.4mm, Thermal Pad 2.4x2.4mm, IPC Low Density)
pins: 1 PG (power), 2 PG (power), 3 DC (power), 4 DC (power), 5 DCM (in), 6 BST, 7 IUSB (in), 8 ~{DOK} (oc), 9 VL (power), 10 CT (in), 11 IDC (in), 12 GND (power), 13 ISET (in), 14 ~{CEN} (in), 15 USUS (in), 16 THM (in), 17 USB (power), 18 ~{FLT} (oc), 19 ~{UOK} (oc), 20 BAT (power), 21 BAT (power), 22 ~{CHG} (oc), 23 SYS (out), 24 SYS (out), 25 CS (in), 26 CS (in), 27 LX, 28 LX, 29 EP (power)

## MAX8903BETI+T
designator U?
2A 1-Cell Li+ DC-DC Charger for USB and Adapter Power, 28-Pin TQFN, -40°C to +85°C, Pb-Free, Tape and Reel; DatasheetVersion: Rev 5, Sep-2011; PackageVersion: revK, 2011; PackageReference: T2844+1; PackageDescription: 28-Pin Thin Quad Flatpack, No Leads, 4 x 4 x 0.75mm Body, 0.4 mm Pitch, TQFN, Pb-Free; ComponentLink1Description: Manufacturer URL; ComponentLink1URL: http://www.maxim-ic.com; ComponentLink2Description: Datasheet; ComponentLink2URL: http://datasheets.maxim-ic.com/en/ds/MAX8903A-MAX8903Y.pdf; ComponentLink3Description: Package Specification; ComponentLink3URL: http://pdfserv.maxim-ic.com/package_dwgs/21-0139.PDF
footprint T2844+1_N (QFN, 28-Leads, Body 4x4mm, Pitch 0.4mm, Thermal Pad 2.4x2.4mm, IPC Medium Density)
footprint T2844+1_L (QFN, 28-Leads, Body 4x4mm, Pitch 0.4mm, Thermal Pad 2.4x2.4mm, IPC High Density)
footprint T2844+1_M (QFN, 28-Leads, Body 4x4mm, Pitch 0.4mm, Thermal Pad 2.4x2.4mm, IPC Low Density)
pins: 1 PG (power), 2 PG (power), 3 DC (power), 4 DC (power), 5 DCM (in), 6 BST, 7 IUSB (in), 8 ~{DOK} (oc), 9 VL (power), 10 CT (in), 11 IDC (in), 12 GND (power), 13 ISET (in), 14 ~{CEN} (in), 15 USUS (in), 16 THM (in), 17 USB (power), 18 ~{FLT} (oc), 19 ~{UOK} (oc), 20 BAT (power), 21 BAT (power), 22 ~{CHG} (oc), 23 SYS (out), 24 SYS (out), 25 CS (in), 26 CS (in), 27 LX, 28 LX, 29 EP (power)

## MAX8903CETI+
designator U?
2A 1-Cell Li+ DC-DC Charger for USB and Adapter Power, 28-Pin TQFN, -40°C to +85°C, Pb-Free; DatasheetVersion: Rev 5, Sep-2011; PackageVersion: revK, 2011; PackageReference: T2844+1; PackageDescription: 28-Pin Thin Quad Flatpack, No Leads, 4 x 4 x 0.75mm Body, 0.4 mm Pitch, TQFN, Pb-Free; ComponentLink1Description: Manufacturer URL; ComponentLink1URL: http://www.maxim-ic.com; ComponentLink2Description: Datasheet; ComponentLink2URL: http://datasheets.maxim-ic.com/en/ds/MAX8903A-MAX8903Y.pdf; ComponentLink3Description: Package Specification; ComponentLink3URL: http://pdfserv.maxim-ic.com/package_dwgs/21-0139.PDF
footprint T2844+1_N (QFN, 28-Leads, Body 4x4mm, Pitch 0.4mm, Thermal Pad 2.4x2.4mm, IPC Medium Density)
footprint T2844+1_L (QFN, 28-Leads, Body 4x4mm, Pitch 0.4mm, Thermal Pad 2.4x2.4mm, IPC High Density)
footprint T2844+1_M (QFN, 28-Leads, Body 4x4mm, Pitch 0.4mm, Thermal Pad 2.4x2.4mm, IPC Low Density)
pins: 1 PG (power), 2 PG (power), 3 DC (power), 4 DC (power), 5 DCM (in), 6 BST, 7 IUSB (in), 8 ~{DOK} (oc), 9 VL (power), 10 CT (in), 11 IDC (in), 12 GND (power), 13 ISET (in), 14 ~{CEN} (in), 15 USUS (in), 16 THM (in), 17 USB (power), 18 ~{FLT} (oc), 19 ~{UOK} (oc), 20 BAT (power), 21 BAT (power), 22 ~{CHG} (oc), 23 SYS (out), 24 SYS (out), 25 CS (in), 26 CS (in), 27 LX, 28 LX, 29 EP (power)

## MAX8903CETI+T
designator U?
2A 1-Cell Li+ DC-DC Charger for USB and Adapter Power, 28-Pin TQFN, -40°C to +85°C, Pb-Free, Tape and Reel; DatasheetVersion: Rev 5, Sep-2011; PackageVersion: revK, 2011; PackageReference: T2844+1; PackageDescription: 28-Pin Thin Quad Flatpack, No Leads, 4 x 4 x 0.75mm Body, 0.4 mm Pitch, TQFN, Pb-Free; ComponentLink1Description: Manufacturer URL; ComponentLink1URL: http://www.maxim-ic.com; ComponentLink2Description: Datasheet; ComponentLink2URL: http://datasheets.maxim-ic.com/en/ds/MAX8903A-MAX8903Y.pdf; ComponentLink3Description: Package Specification; ComponentLink3URL: http://pdfserv.maxim-ic.com/package_dwgs/21-0139.PDF
footprint T2844+1_N (QFN, 28-Leads, Body 4x4mm, Pitch 0.4mm, Thermal Pad 2.4x2.4mm, IPC Medium Density)
footprint T2844+1_L (QFN, 28-Leads, Body 4x4mm, Pitch 0.4mm, Thermal Pad 2.4x2.4mm, IPC High Density)
footprint T2844+1_M (QFN, 28-Leads, Body 4x4mm, Pitch 0.4mm, Thermal Pad 2.4x2.4mm, IPC Low Density)
pins: 1 PG (power), 2 PG (power), 3 DC (power), 4 DC (power), 5 DCM (in), 6 BST, 7 IUSB (in), 8 ~{DOK} (oc), 9 VL (power), 10 CT (in), 11 IDC (in), 12 GND (power), 13 ISET (in), 14 ~{CEN} (in), 15 USUS (in), 16 THM (in), 17 USB (power), 18 ~{FLT} (oc), 19 ~{UOK} (oc), 20 BAT (power), 21 BAT (power), 22 ~{CHG} (oc), 23 SYS (out), 24 SYS (out), 25 CS (in), 26 CS (in), 27 LX, 28 LX, 29 EP (power)

## MAX8903DETI+
designator U?
2A 1-Cell Li+ DC-DC Charger for USB and Adapter Power, 28-Pin TQFN, -40°C to +85°C, Pb-Free; DatasheetVersion: Rev 5, Sep-2011; PackageVersion: revK, 2011; PackageReference: T2844+1; PackageDescription: 28-Pin Thin Quad Flatpack, No Leads, 4 x 4 x 0.75mm Body, 0.4 mm Pitch, TQFN, Pb-Free; ComponentLink1Description: Manufacturer URL; ComponentLink1URL: http://www.maxim-ic.com; ComponentLink2Description: Datasheet; ComponentLink2URL: http://datasheets.maxim-ic.com/en/ds/MAX8903A-MAX8903Y.pdf; ComponentLink3Description: Package Specification; ComponentLink3URL: http://pdfserv.maxim-ic.com/package_dwgs/21-0139.PDF
footprint T2844+1_N (QFN, 28-Leads, Body 4x4mm, Pitch 0.4mm, Thermal Pad 2.4x2.4mm, IPC Medium Density)
footprint T2844+1_L (QFN, 28-Leads, Body 4x4mm, Pitch 0.4mm, Thermal Pad 2.4x2.4mm, IPC High Density)
footprint T2844+1_M (QFN, 28-Leads, Body 4x4mm, Pitch 0.4mm, Thermal Pad 2.4x2.4mm, IPC Low Density)
pins: 1 PG (power), 2 PG (power), 3 DC (power), 4 DC (power), 5 DCM (in), 6 BST, 7 IUSB (in), 8 ~{DOK} (oc), 9 VL (power), 10 CT (in), 11 IDC (in), 12 GND (power), 13 ISET (in), 14 ~{CEN} (in), 15 USUS (in), 16 THM (in), 17 USB (power), 18 ~{FLT} (oc), 19 ~{UOK} (oc), 20 BAT (power), 21 BAT (power), 22 ~{CHG} (oc), 23 SYS (out), 24 SYS (out), 25 CS (in), 26 CS (in), 27 LX, 28 LX, 29 EP (power)

## MAX8903DETI+T
designator U?
2A 1-Cell Li+ DC-DC Charger for USB and Adapter Power, 28-Pin TQFN, -40°C to +85°C, Pb-Free, Tape and Reel; DatasheetVersion: Rev 5, Sep-2011; PackageVersion: revK, 2011; PackageReference: T2844+1; PackageDescription: 28-Pin Thin Quad Flatpack, No Leads, 4 x 4 x 0.75mm Body, 0.4 mm Pitch, TQFN, Pb-Free; ComponentLink1Description: Manufacturer URL; ComponentLink1URL: http://www.maxim-ic.com; ComponentLink2Description: Datasheet; ComponentLink2URL: http://datasheets.maxim-ic.com/en/ds/MAX8903A-MAX8903Y.pdf; ComponentLink3Description: Package Specification; ComponentLink3URL: http://pdfserv.maxim-ic.com/package_dwgs/21-0139.PDF
footprint T2844+1_N (QFN, 28-Leads, Body 4x4mm, Pitch 0.4mm, Thermal Pad 2.4x2.4mm, IPC Medium Density)
footprint T2844+1_L (QFN, 28-Leads, Body 4x4mm, Pitch 0.4mm, Thermal Pad 2.4x2.4mm, IPC High Density)
footprint T2844+1_M (QFN, 28-Leads, Body 4x4mm, Pitch 0.4mm, Thermal Pad 2.4x2.4mm, IPC Low Density)
pins: 1 PG (power), 2 PG (power), 3 DC (power), 4 DC (power), 5 DCM (in), 6 BST, 7 IUSB (in), 8 ~{DOK} (oc), 9 VL (power), 10 CT (in), 11 IDC (in), 12 GND (power), 13 ISET (in), 14 ~{CEN} (in), 15 USUS (in), 16 THM (in), 17 USB (power), 18 ~{FLT} (oc), 19 ~{UOK} (oc), 20 BAT (power), 21 BAT (power), 22 ~{CHG} (oc), 23 SYS (out), 24 SYS (out), 25 CS (in), 26 CS (in), 27 LX, 28 LX, 29 EP (power)

## MAX8903EETI+
designator U?
2A 1-Cell Li+ DC-DC Charger for USB and Adapter Power, 28-Pin TQFN, -40°C to +85°C, Pb-Free; DatasheetVersion: Rev 5, Sep-2011; PackageVersion: revK, 2011; PackageReference: T2844+1; PackageDescription: 28-Pin Thin Quad Flatpack, No Leads, 4 x 4 x 0.75mm Body, 0.4 mm Pitch, TQFN, Pb-Free; ComponentLink1Description: Manufacturer URL; ComponentLink1URL: http://www.maxim-ic.com; ComponentLink2Description: Datasheet; ComponentLink2URL: http://datasheets.maxim-ic.com/en/ds/MAX8903A-MAX8903Y.pdf; ComponentLink3Description: Package Specification; ComponentLink3URL: http://pdfserv.maxim-ic.com/package_dwgs/21-0139.PDF
footprint T2844+1_N (QFN, 28-Leads, Body 4x4mm, Pitch 0.4mm, Thermal Pad 2.4x2.4mm, IPC Medium Density)
footprint T2844+1_L (QFN, 28-Leads, Body 4x4mm, Pitch 0.4mm, Thermal Pad 2.4x2.4mm, IPC High Density)
footprint T2844+1_M (QFN, 28-Leads, Body 4x4mm, Pitch 0.4mm, Thermal Pad 2.4x2.4mm, IPC Low Density)
pins: 1 PG (power), 2 PG (power), 3 DC (power), 4 DC (power), 5 DCM (in), 6 BST, 7 IUSB (in), 8 ~{DOK} (oc), 9 VL (power), 10 CT (in), 11 IDC (in), 12 GND (power), 13 ISET (in), 14 ~{CEN} (in), 15 USUS (in), 16 THM (in), 17 USB (power), 18 ~{FLT} (oc), 19 ~{UOK} (oc), 20 BAT (power), 21 BAT (power), 22 ~{CHG} (oc), 23 SYS (out), 24 SYS (out), 25 CS (in), 26 CS (in), 27 LX, 28 LX, 29 EP (power)

## MAX8903EETI+T
designator U?
2A 1-Cell Li+ DC-DC Charger for USB and Adapter Power, 28-Pin TQFN, -40°C to +85°C, Pb-Free, Tape and Reel; DatasheetVersion: Rev 5, Sep-2011; PackageVersion: revK, 2011; PackageReference: T2844+1; PackageDescription: 28-Pin Thin Quad Flatpack, No Leads, 4 x 4 x 0.75mm Body, 0.4 mm Pitch, TQFN, Pb-Free; ComponentLink1Description: Manufacturer URL; ComponentLink1URL: http://www.maxim-ic.com; ComponentLink2Description: Datasheet; ComponentLink2URL: http://datasheets.maxim-ic.com/en/ds/MAX8903A-MAX8903Y.pdf; ComponentLink3Description: Package Specification; ComponentLink3URL: http://pdfserv.maxim-ic.com/package_dwgs/21-0139.PDF
footprint T2844+1_N (QFN, 28-Leads, Body 4x4mm, Pitch 0.4mm, Thermal Pad 2.4x2.4mm, IPC Medium Density)
footprint T2844+1_L (QFN, 28-Leads, Body 4x4mm, Pitch 0.4mm, Thermal Pad 2.4x2.4mm, IPC High Density)
footprint T2844+1_M (QFN, 28-Leads, Body 4x4mm, Pitch 0.4mm, Thermal Pad 2.4x2.4mm, IPC Low Density)
pins: 1 PG (power), 2 PG (power), 3 DC (power), 4 DC (power), 5 DCM (in), 6 BST, 7 IUSB (in), 8 ~{DOK} (oc), 9 VL (power), 10 CT (in), 11 IDC (in), 12 GND (power), 13 ISET (in), 14 ~{CEN} (in), 15 USUS (in), 16 THM (in), 17 USB (power), 18 ~{FLT} (oc), 19 ~{UOK} (oc), 20 BAT (power), 21 BAT (power), 22 ~{CHG} (oc), 23 SYS (out), 24 SYS (out), 25 CS (in), 26 CS (in), 27 LX, 28 LX, 29 EP (power)

## MAX8903GETI+
designator U?
2A 1-Cell Li+ DC-DC Charger for USB and Adapter Power, 28-Pin TQFN, -40°C to +85°C, Pb-Free; DatasheetVersion: Rev 5, Sep-2011; PackageVersion: revK, 2011; PackageReference: T2844+1; PackageDescription: 28-Pin Thin Quad Flatpack, No Leads, 4 x 4 x 0.75mm Body, 0.4 mm Pitch, TQFN, Pb-Free; ComponentLink1Description: Manufacturer URL; ComponentLink1URL: http://www.maxim-ic.com; ComponentLink2Description: Datasheet; ComponentLink2URL: http://datasheets.maxim-ic.com/en/ds/MAX8903A-MAX8903Y.pdf; ComponentLink3Description: Package Specification; ComponentLink3URL: http://pdfserv.maxim-ic.com/package_dwgs/21-0139.PDF
footprint T2844+1_N (QFN, 28-Leads, Body 4x4mm, Pitch 0.4mm, Thermal Pad 2.4x2.4mm, IPC Medium Density)
footprint T2844+1_L (QFN, 28-Leads, Body 4x4mm, Pitch 0.4mm, Thermal Pad 2.4x2.4mm, IPC High Density)
footprint T2844+1_M (QFN, 28-Leads, Body 4x4mm, Pitch 0.4mm, Thermal Pad 2.4x2.4mm, IPC Low Density)
pins: 1 PG (power), 2 PG (power), 3 DC (power), 4 DC (power), 5 DCM (in), 6 BST, 7 IUSB (in), 8 ~{DOK} (oc), 9 VL (power), 10 CT (in), 11 IDC (in), 12 GND (power), 13 ISET (in), 14 ~{CEN} (in), 15 USUS (in), 16 THM (in), 17 USB (power), 18 ~{FLT} (oc), 19 ~{UOK} (oc), 20 BAT (power), 21 BAT (power), 22 ~{CHG} (oc), 23 SYS (out), 24 SYS (out), 25 CS (in), 26 CS (in), 27 LX, 28 LX, 29 EP (power)

## MAX8903GETI+T
designator U?
2A 1-Cell Li+ DC-DC Charger for USB and Adapter Power, 28-Pin TQFN, -40°C to +85°C, Pb-Free, Tape and Reel; DatasheetVersion: Rev 5, Sep-2011; PackageVersion: revK, 2011; PackageReference: T2844+1; PackageDescription: 28-Pin Thin Quad Flatpack, No Leads, 4 x 4 x 0.75mm Body, 0.4 mm Pitch, TQFN, Pb-Free; ComponentLink1Description: Manufacturer URL; ComponentLink1URL: http://www.maxim-ic.com; ComponentLink2Description: Datasheet; ComponentLink2URL: http://datasheets.maxim-ic.com/en/ds/MAX8903A-MAX8903Y.pdf; ComponentLink3Description: Package Specification; ComponentLink3URL: http://pdfserv.maxim-ic.com/package_dwgs/21-0139.PDF
footprint T2844+1_N (QFN, 28-Leads, Body 4x4mm, Pitch 0.4mm, Thermal Pad 2.4x2.4mm, IPC Medium Density)
footprint T2844+1_L (QFN, 28-Leads, Body 4x4mm, Pitch 0.4mm, Thermal Pad 2.4x2.4mm, IPC High Density)
footprint T2844+1_M (QFN, 28-Leads, Body 4x4mm, Pitch 0.4mm, Thermal Pad 2.4x2.4mm, IPC Low Density)
pins: 1 PG (power), 2 PG (power), 3 DC (power), 4 DC (power), 5 DCM (in), 6 BST, 7 IUSB (in), 8 ~{DOK} (oc), 9 VL (power), 10 CT (in), 11 IDC (in), 12 GND (power), 13 ISET (in), 14 ~{CEN} (in), 15 USUS (in), 16 THM (in), 17 USB (power), 18 ~{FLT} (oc), 19 ~{UOK} (oc), 20 BAT (power), 21 BAT (power), 22 ~{CHG} (oc), 23 SYS (out), 24 SYS (out), 25 CS (in), 26 CS (in), 27 LX, 28 LX, 29 EP (power)

## MAX8903HETI+
designator U?
2A 1-Cell Li+ DC-DC Charger for USB and Adapter Power, 28-Pin TQFN, -40°C to +85°C, Pb-Free; DatasheetVersion: Rev 5, Sep-2011; PackageVersion: revK, 2011; PackageReference: T2844+1; PackageDescription: 28-Pin Thin Quad Flatpack, No Leads, 4 x 4 x 0.75mm Body, 0.4 mm Pitch, TQFN, Pb-Free; ComponentLink1Description: Manufacturer URL; ComponentLink1URL: http://www.maxim-ic.com; ComponentLink2Description: Datasheet; ComponentLink2URL: http://datasheets.maxim-ic.com/en/ds/MAX8903A-MAX8903Y.pdf; ComponentLink3Description: Package Specification; ComponentLink3URL: http://pdfserv.maxim-ic.com/package_dwgs/21-0139.PDF
footprint T2844+1_N (QFN, 28-Leads, Body 4x4mm, Pitch 0.4mm, Thermal Pad 2.4x2.4mm, IPC Medium Density)
footprint T2844+1_L (QFN, 28-Leads, Body 4x4mm, Pitch 0.4mm, Thermal Pad 2.4x2.4mm, IPC High Density)
footprint T2844+1_M (QFN, 28-Leads, Body 4x4mm, Pitch 0.4mm, Thermal Pad 2.4x2.4mm, IPC Low Density)
pins: 1 PG (power), 2 PG (power), 3 DC (power), 4 DC (power), 5 DCM (in), 6 BST, 7 IUSB (in), 8 ~{DOK} (oc), 9 VL (power), 10 CT (in), 11 IDC (in), 12 GND (power), 13 ISET (in), 14 ~{CEN} (in), 15 USUS (in), 16 THM (in), 17 USB (power), 18 ~{FLT} (oc), 19 ~{UOK} (oc), 20 BAT (power), 21 BAT (power), 22 ~{CHG} (oc), 23 SYS (out), 24 SYS (out), 25 CS (in), 26 CS (in), 27 LX, 28 LX, 29 EP (power)

## MAX8903HETI+T
designator U?
2A 1-Cell Li+ DC-DC Charger for USB and Adapter Power, 28-Pin TQFN, -40°C to +85°C, Pb-Free, Tape and Reel; DatasheetVersion: Rev 5, Sep-2011; PackageVersion: revK, 2011; PackageReference: T2844+1; PackageDescription: 28-Pin Thin Quad Flatpack, No Leads, 4 x 4 x 0.75mm Body, 0.4 mm Pitch, TQFN, Pb-Free; ComponentLink1Description: Manufacturer URL; ComponentLink1URL: http://www.maxim-ic.com; ComponentLink2Description: Datasheet; ComponentLink2URL: http://datasheets.maxim-ic.com/en/ds/MAX8903A-MAX8903Y.pdf; ComponentLink3Description: Package Specification; ComponentLink3URL: http://pdfserv.maxim-ic.com/package_dwgs/21-0139.PDF
footprint T2844+1_N (QFN, 28-Leads, Body 4x4mm, Pitch 0.4mm, Thermal Pad 2.4x2.4mm, IPC Medium Density)
footprint T2844+1_L (QFN, 28-Leads, Body 4x4mm, Pitch 0.4mm, Thermal Pad 2.4x2.4mm, IPC High Density)
footprint T2844+1_M (QFN, 28-Leads, Body 4x4mm, Pitch 0.4mm, Thermal Pad 2.4x2.4mm, IPC Low Density)
pins: 1 PG (power), 2 PG (power), 3 DC (power), 4 DC (power), 5 DCM (in), 6 BST, 7 IUSB (in), 8 ~{DOK} (oc), 9 VL (power), 10 CT (in), 11 IDC (in), 12 GND (power), 13 ISET (in), 14 ~{CEN} (in), 15 USUS (in), 16 THM (in), 17 USB (power), 18 ~{FLT} (oc), 19 ~{UOK} (oc), 20 BAT (power), 21 BAT (power), 22 ~{CHG} (oc), 23 SYS (out), 24 SYS (out), 25 CS (in), 26 CS (in), 27 LX, 28 LX, 29 EP (power)

## MAX8903JETI+
designator U?
2A 1-Cell Li+ DC-DC Charger for USB and Adapter Power, 28-Pin TQFN, -40°C to +85°C, Pb-Free; DatasheetVersion: Rev 5, Sep-2011; PackageVersion: revK, 2011; PackageReference: T2844+1; PackageDescription: 28-Pin Thin Quad Flatpack, No Leads, 4 x 4 x 0.75mm Body, 0.4 mm Pitch, TQFN, Pb-Free; ComponentLink1Description: Manufacturer URL; ComponentLink1URL: http://www.maxim-ic.com; ComponentLink2Description: Datasheet; ComponentLink2URL: http://datasheets.maxim-ic.com/en/ds/MAX8903A-MAX8903Y.pdf; ComponentLink3Description: Package Specification; ComponentLink3URL: http://pdfserv.maxim-ic.com/package_dwgs/21-0139.PDF
footprint T2844+1_N (QFN, 28-Leads, Body 4x4mm, Pitch 0.4mm, Thermal Pad 2.4x2.4mm, IPC Medium Density)
footprint T2844+1_L (QFN, 28-Leads, Body 4x4mm, Pitch 0.4mm, Thermal Pad 2.4x2.4mm, IPC High Density)
footprint T2844+1_M (QFN, 28-Leads, Body 4x4mm, Pitch 0.4mm, Thermal Pad 2.4x2.4mm, IPC Low Density)
pins: 1 PG (power), 2 PG (power), 3 DC (power), 4 DC (power), 5 DCM (in), 6 BST, 7 IUSB (in), 8 ~{DOK} (oc), 9 VL (power), 10 CT (in), 11 IDC (in), 12 GND (power), 13 ISET (in), 14 ~{CEN} (in), 15 USUS (in), 16 THM (in), 17 USB (power), 18 ~{FLT} (oc), 19 ~{UOK} (oc), 20 BAT (power), 21 BAT (power), 22 ~{CHG} (oc), 23 SYS (out), 24 SYS (out), 25 CS (in), 26 CS (in), 27 LX, 28 LX, 29 EP (power)

## MAX8903JETI+T
designator U?
2A 1-Cell Li+ DC-DC Charger for USB and Adapter Power, 28-Pin TQFN, -40°C to +85°C, Pb-Free, Tape and Reel; DatasheetVersion: Rev 5, Sep-2011; PackageVersion: revK, 2011; PackageReference: T2844+1; PackageDescription: 28-Pin Thin Quad Flatpack, No Leads, 4 x 4 x 0.75mm Body, 0.4 mm Pitch, TQFN, Pb-Free; ComponentLink1Description: Manufacturer URL; ComponentLink1URL: http://www.maxim-ic.com; ComponentLink2Description: Datasheet; ComponentLink2URL: http://datasheets.maxim-ic.com/en/ds/MAX8903A-MAX8903Y.pdf; ComponentLink3Description: Package Specification; ComponentLink3URL: http://pdfserv.maxim-ic.com/package_dwgs/21-0139.PDF
footprint T2844+1_N (QFN, 28-Leads, Body 4x4mm, Pitch 0.4mm, Thermal Pad 2.4x2.4mm, IPC Medium Density)
footprint T2844+1_L (QFN, 28-Leads, Body 4x4mm, Pitch 0.4mm, Thermal Pad 2.4x2.4mm, IPC High Density)
footprint T2844+1_M (QFN, 28-Leads, Body 4x4mm, Pitch 0.4mm, Thermal Pad 2.4x2.4mm, IPC Low Density)
pins: 1 PG (power), 2 PG (power), 3 DC (power), 4 DC (power), 5 DCM (in), 6 BST, 7 IUSB (in), 8 ~{DOK} (oc), 9 VL (power), 10 CT (in), 11 IDC (in), 12 GND (power), 13 ISET (in), 14 ~{CEN} (in), 15 USUS (in), 16 THM (in), 17 USB (power), 18 ~{FLT} (oc), 19 ~{UOK} (oc), 20 BAT (power), 21 BAT (power), 22 ~{CHG} (oc), 23 SYS (out), 24 SYS (out), 25 CS (in), 26 CS (in), 27 LX, 28 LX, 29 EP (power)